# Altium footprint library 中频收发.PcbLib: 31 footprints (part 1 of 2)
Each footprint in its own frame and in the unit in brackets; x right, y up, seen from the top. Pads: shape width x height; smd on the part's side, far side on the other; paste and mask are expansions set on the pad; w line width, h text height; cw(c..) or ccw(c..) is an arc to the next point about the centre after c.
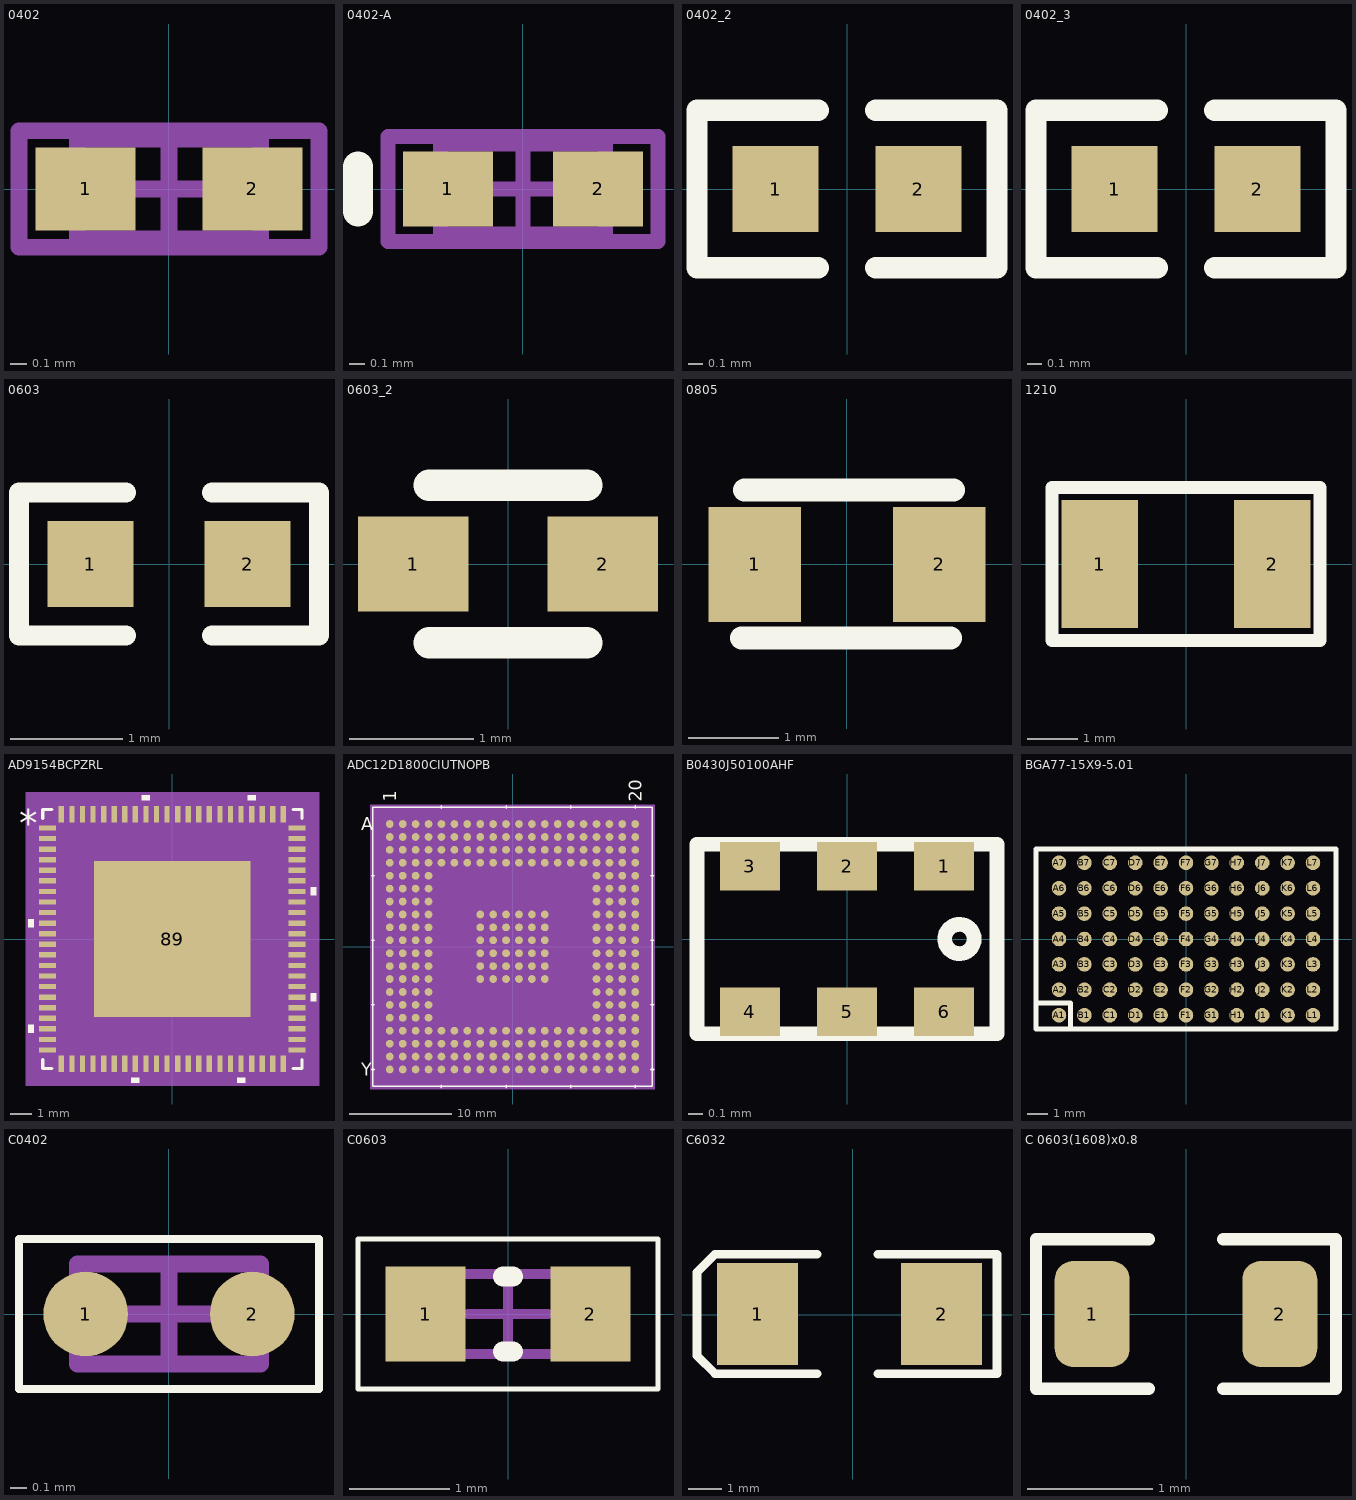
[diagram p0: the footprints below, top view; thin cyan lines are the x and y axes]

## 0402 [mm] "Chip Capacitor, Body 1.0x0.5mm, IPC High Density"
height 1.3
pads (2):
  rect 0.6x0.5 smd mask+0.02: 1(-0.5,0) 2(0.5,0)
Mechanical 13:
  lines w0.1: -0.55,-0.3 0.55,-0.3 0.55,0.3 -0.55,0.3 -0.55,-0.3
Mechanical 15:
  lines w0.1: -0.3,0 0.3,0 ; 0,-0.3 0,0.3 ; -0.9,-0.35 0.9,-0.35 0.9,0.35 -0.9,0.35 -0.9,-0.35
3D body: height 1.3, standoff 0, extent -0.55,-0.3 0.55,0.3

## 0402-A [mm] "Chip Inductor, Body 1.0x0.5mm, IPC High Density"
height 0.55
pads (2):
  rect 0.6x0.5 smd mask+0.02: 1(-0.5,0) 2(0.5,0)
Top Overlay:
  lines w0.2: -1.1,-0.15 -1.1,0.15
Mechanical 13:
  lines w0.1: -0.55,-0.3 0.55,-0.3 0.55,0.3 -0.55,0.3 -0.55,-0.3
Mechanical 15:
  lines w0.1: -0.3,0 0.3,0 ; 0,-0.3 0,0.3 ; -0.9,-0.35 0.9,-0.35 0.9,0.35 -0.9,0.35 -0.9,-0.35
3D body: height 0.55, standoff 0, extent -0.55,-0.3 0.55,0.3

## 0402_2 [mm]
pads (2):
  rect 0.6x0.6 smd: 1(-0.5,0) 2(0.5,0)
Top Overlay:
  lines w0.15: -0.2,-0.55 -1.05,-0.55 -1.05,0.55 -0.2,0.55 ; 0.2,-0.55 1.05,-0.55 1.05,0.55 0.2,0.55

## 0402_3 [mm]
pads (2):
  rect 0.6x0.6 smd: 1(-0.5,0) 2(0.5,0)
Top Overlay:
  lines w0.15: -0.2,-0.55 -1.05,-0.55 -1.05,0.55 -0.2,0.55 ; 0.2,-0.55 1.05,-0.55 1.05,0.55 0.2,0.55

## 0603 [mil]
pads (2):
  rect 30x30 smd: 1(-27.5,0) 2(27.5,0)
Top Overlay:
  lines w7: -15,-25 -52.5,-25 -52.5,25 -15,25 ; 15,-25 52.5,-25 52.5,25 15,25

## 0603_2 [mil]
pads (2):
  rect 35x30 smd: 1(-30,0) 2(30,0)
Top Overlay:
  lines w10: -25,-25 25,-25 ; -25,25 25,25

## 0805 [mil]
pads (2):
  rect 40x50 smd: 1(-40,0) 2(40,0)
Top Overlay:
  lines w10: -45.67,-31.89 44.88,-31.89 ; -44.49,32.28 46.06,32.28

## 1210 [mil]
pads (2):
  rect 60x100 smd: 1(-67.5,0) 2(67.5,0)
Top Overlay:
  lines w10: -105,-60 -105,60 105,60 105,-60 -105,-60

## AD9154BCPZRL [mm]
pads (89):
  rect 0.8x0.25 smd paste+0 mask+0: 1(-5.9,5.25) 2(-5.9,4.75) 3(-5.9,4.25) 4(-5.9,3.75) 5(-5.9,3.25) 6(-5.9,2.75) 7(-5.9,2.25) 8(-5.9,1.75) 9(-5.9,1.25) 10(-5.9,0.75) 11(-5.9,0.25) 12(-5.9,-0.25) 13(-5.9,-0.75) 14(-5.9,-1.25) 15(-5.9,-1.75) 16(-5.9,-2.25) 17(-5.9,-2.75) 18(-5.9,-3.25) 19(-5.9,-3.75) 20(-5.9,-4.25) 21(-5.9,-4.75) 22(-5.9,-5.25) 45(5.9,-5.25) 46(5.9,-4.75) 47(5.9,-4.25) 48(5.9,-3.75) 49(5.9,-3.25) 50(5.9,-2.75) 51(5.9,-2.25) 52(5.9,-1.75) 53(5.9,-1.25) 54(5.9,-0.75) 55(5.9,-0.25) 56(5.9,0.25) 57(5.9,0.75) 58(5.9,1.25) 59(5.9,1.75) 60(5.9,2.25) 61(5.9,2.75) 62(5.9,3.25) 63(5.9,3.75) 64(5.9,4.25) 65(5.9,4.75) 66(5.9,5.25)
  rect 0.25x0.8 smd paste+0 mask+0: 23(-5.25,-5.9) 24(-4.75,-5.9) 25(-4.25,-5.9) 26(-3.75,-5.9) 27(-3.25,-5.9) 28(-2.75,-5.9) 29(-2.25,-5.9) 30(-1.75,-5.9) 31(-1.25,-5.9) 32(-0.75,-5.9) 33(-0.25,-5.9) 34(0.25,-5.9) 35(0.75,-5.9) 36(1.25,-5.9) 37(1.75,-5.9) 38(2.25,-5.9) 39(2.75,-5.9) 40(3.25,-5.9) 41(3.75,-5.9) 42(4.25,-5.9) 43(4.75,-5.9) 44(5.25,-5.9) 67(5.25,5.9) 68(4.75,5.9) 69(4.25,5.9) 70(3.75,5.9) 71(3.25,5.9) 72(2.75,5.9) 73(2.25,5.9) 74(1.75,5.9) 75(1.25,5.9) 76(0.75,5.9) 77(0.25,5.9) 78(-0.25,5.9) 79(-0.75,5.9) 80(-1.25,5.9) 81(-1.75,5.9) 82(-2.25,5.9) 83(-2.75,5.9) 84(-3.25,5.9) 85(-3.75,5.9) 86(-4.25,5.9) 87(-4.75,5.9) 88(-5.25,5.9)
  rect 7.4x7.4 smd paste-3.687 mask+0: 89(0,0)
Top Overlay:
  region: -6.554,0.941 -6.808,0.941 -6.808,0.56 -6.554,0.56
  region: -6.554,-4.059 -6.808,-4.059 -6.808,-4.44 -6.554,-4.44
  region: -1.559,-6.554 -1.94,-6.554 -1.94,-6.808 -1.559,-6.808
  region: 3.441,-6.554 3.06,-6.554 3.06,-6.808 3.441,-6.808
  region: 6.554,-2.559 6.808,-2.559 6.808,-2.94 6.554,-2.94
  region: 6.554,2.441 6.808,2.441 6.808,2.06 6.554,2.06
  region: 3.941,6.554 3.56,6.554 3.56,6.808 3.941,6.808
  region: -1.06,6.554 -1.441,6.554 -1.441,6.808 -1.06,6.808
  lines w0.152: -6.127,-5.708 -6.127,-6.127 -5.708,-6.127 ; -6.127,5.708 -6.127,6.127 -5.708,6.127 ; 5.708,-6.127 6.127,-6.127 6.127,-5.708 ; 5.708,6.127 6.127,6.127 6.127,5.708
  text "*" at -7.253,4.865 h1.27
Top Paste:
  region: -2.32,3.6 -3.6,3.6 -3.6,2.32 -2.32,2.32
  region: -2.32,2.12 -3.6,2.12 -3.6,0.84 -2.32,0.84
  region: -2.32,0.64 -3.6,0.64 -3.6,-0.64 -2.32,-0.64
  region: -2.32,-0.84 -3.6,-0.84 -3.6,-2.12 -2.32,-2.12
  region: -2.32,-2.32 -3.6,-2.32 -3.6,-3.6 -2.32,-3.6
  region: -0.84,3.6 -2.12,3.6 -2.12,2.32 -0.84,2.32
  region: -0.84,2.12 -2.12,2.12 -2.12,0.84 -0.84,0.84
  region: -0.84,0.64 -2.12,0.64 -2.12,-0.64 -0.84,-0.64
  region: -0.84,-0.84 -2.12,-0.84 -2.12,-2.12 -0.84,-2.12
  region: -0.84,-2.32 -2.12,-2.32 -2.12,-3.6 -0.84,-3.6
  region: 0.64,3.6 -0.64,3.6 -0.64,2.32 0.64,2.32
  region: 0.64,2.12 -0.64,2.12 -0.64,0.84 0.64,0.84
  region: 0.64,0.64 -0.64,0.64 -0.64,-0.64 0.64,-0.64
  region: 0.64,-0.84 -0.64,-0.84 -0.64,-2.12 0.64,-2.12
  region: 0.64,-2.32 -0.64,-2.32 -0.64,-3.6 0.64,-3.6
  region: 2.12,3.6 0.84,3.6 0.84,2.32 2.12,2.32
  region: 2.12,2.12 0.84,2.12 0.84,0.84 2.12,0.84
  region: 2.12,0.64 0.84,0.64 0.84,-0.64 2.12,-0.64
  region: 2.12,-0.84 0.84,-0.84 0.84,-2.12 2.12,-2.12
  region: 2.12,-2.32 0.84,-2.32 0.84,-3.6 2.12,-3.6
  region: 3.6,3.6 2.32,3.6 2.32,2.32 3.6,2.32
  region: 3.6,2.12 2.32,2.12 2.32,0.84 3.6,0.84
  region: 3.6,0.64 2.32,0.64 2.32,-0.64 3.6,-0.64
  region: 3.6,-0.84 2.32,-0.84 2.32,-2.12 3.6,-2.12
  region: 3.6,-2.32 2.32,-2.32 2.32,-3.6 3.6,-3.6
Mechanical 5:
  region: 6.935,-6.935 -6.935,-6.935 -6.935,6.935 6.935,6.935
Mechanical 13:
  drawing of 181 lines, arcs and shapes, not listed
  text "*" at -5.817,4.865 h1.27
Mechanical 15:
  region: -5.629,-6.254 -6.254,-6.254 -6.254,-5.629 -6.554,-5.629 -6.554,5.629 -6.254,5.629 -6.254,6.254 -5.629,6.254 -5.629,6.554 5.629,6.554 5.629,6.254 6.254,6.254 6.254,5.629 6.554,5.629 6.554,-5.629 6.254,-5.629 6.254,-6.254 5.629,-6.254 5.629,-6.554 -5.629,-6.554
  lines w0.152: -6.554,-5.629 -6.254,-5.629 -6.254,-6.254 -5.629,-6.254 -5.629,-6.554 5.629,-6.554 5.629,-6.254 6.254,-6.254 6.254,-5.629 6.554,-5.629 6.554,5.629 6.254,5.629 6.254,6.254 5.629,6.254 5.629,6.554 -5.629,6.554 -5.629,6.254 -6.254,6.254 -6.254,5.629 -6.554,5.629 -6.554,-5.629
3D body "CP_88_6_ADI.step": height 0.89, standoff 0, extent -6,-6 6,6

## ADC12D1800CIUTNOPB [mil]
pads (292):
  round 30 smd paste+0 mask+0: A1(-475,475) A2(-425,475) A3(-375,475) A4(-325,475) A5(-275,475) A6(-225,475) A7(-175,475) A8(-125,475) A9(-75,475) A10(-25,475) A11(25,475) A12(75,475) A13(125,475) A14(175,475) A15(225,475) A16(275,475) A17(325,475) A18(375,475) A19(425,475) A20(475,475) B1(-475,425) B2(-425,425) B3(-375,425) B4(-325,425) B5(-275,425) B6(-225,425) B7(-175,425) B8(-125,425) B9(-75,425) B10(-25,425) B11(25,425) B12(75,425) B13(125,425) B14(175,425) B15(225,425) B16(275,425) B17(325,425) B18(375,425) B19(425,425) B20(475,425) C1(-475,375) C2(-425,375) C3(-375,375) C4(-325,375) C5(-275,375) C6(-225,375) C7(-175,375) C8(-125,375) C9(-75,375) C10(-25,375) C11(25,375) C12(75,375) C13(125,375) C14(175,375) C15(225,375) C16(275,375) C17(325,375) C18(375,375) C19(425,375) C20(475,375) D1(-475,325) D2(-425,325) D3(-375,325) D4(-325,325) D5(-275,325) D6(-225,325) D7(-175,325) D8(-125,325) D9(-75,325) D10(-25,325) D11(25,325) D12(75,325) D13(125,325) D14(175,325) D15(225,325) D16(275,325) D17(325,325) D18(375,325) D19(425,325) D20(475,325) E1(-475,275) E2(-425,275) E3(-375,275) E4(-325,275) E17(325,275) E18(375,275) E19(425,275) E20(475,275) F1(-475,225) F2(-425,225) F3(-375,225) F4(-325,225) F17(325,225) F18(375,225) F19(425,225) F20(475,225) G1(-475,175) G2(-425,175) G3(-375,175) G4(-325,175) G17(325,175) G18(375,175) G19(425,175) G20(475,175) H1(-475,125) H2(-425,125) H3(-375,125) H4(-325,125) H8(-125,125) H9(-75,125) H10(-25,125) H11(25,125) H12(75,125) H13(125,125) H17(325,125) H18(375,125) H19(425,125) H20(475,125) J1(-475,75) J2(-425,75) J3(-375,75) J4(-325,75) J8(-125,75) J9(-75,75) J10(-25,75) J11(25,75) J12(75,75) J13(125,75) J17(325,75) J18(375,75) J19(425,75) J20(475,75) K1(-475,25) K2(-425,25) K3(-375,25) K4(-325,25) K8(-125,25) K9(-75,25) K10(-25,25) K11(25,25) K12(75,25) K13(125,25) K17(325,25) K18(375,25) K19(425,25) K20(475,25) L1(-475,-25) L2(-425,-25) L3(-375,-25) L4(-325,-25) L8(-125,-25) L9(-75,-25) L10(-25,-25) L11(25,-25) L12(75,-25) L13(125,-25) L17(325,-25) L18(375,-25) L19(425,-25) L20(475,-25) M1(-475,-75) M2(-425,-75) M3(-375,-75) M4(-325,-75) M8(-125,-75) M9(-75,-75) M10(-25,-75) M11(25,-75) M12(75,-75) M13(125,-75) M17(325,-75) M18(375,-75) M19(425,-75) M20(475,-75) N1(-475,-125) N2(-425,-125) N3(-375,-125) N4(-325,-125) N8(-125,-125) N9(-75,-125) N10(-25,-125) N11(25,-125) N12(75,-125) N13(125,-125) N17(325,-125) N18(375,-125) N19(425,-125) N20(475,-125) P1(-475,-175) P2(-425,-175) P3(-375,-175) P4(-325,-175) P17(325,-175) P18(375,-175) P19(425,-175) P20(475,-175) R1(-475,-225) R2(-425,-225) R3(-375,-225) R4(-325,-225) R17(325,-225) R18(375,-225) R19(425,-225) R20(475,-225) T1(-475,-275) T2(-425,-275) T3(-375,-275) T4(-325,-275) T17(325,-275) T18(375,-275) T19(425,-275) T20(475,-275) U1(-475,-325) U2(-425,-325) U3(-375,-325) U4(-325,-325) U5(-275,-325) U6(-225,-325) U7(-175,-325) U8(-125,-325) U9(-75,-325) U10(-25,-325) U11(25,-325) U12(75,-325) U13(125,-325) U14(175,-325) U15(225,-325) U16(275,-325) U17(325,-325) U18(375,-325) U19(425,-325) U20(475,-325) V1(-475,-375) V2(-425,-375) V3(-375,-375) V4(-325,-375) V5(-275,-375) V6(-225,-375) V7(-175,-375) V8(-125,-375) V9(-75,-375) V10(-25,-375) V11(25,-375) V12(75,-375) V13(125,-375) V14(175,-375) V15(225,-375) V16(275,-375) V17(325,-375) V18(375,-375) V19(425,-375) V20(475,-375) W1(-475,-425) W2(-425,-425) W3(-375,-425) W4(-325,-425) W5(-275,-425) W6(-225,-425) W7(-175,-425) W8(-125,-425) W9(-75,-425) W10(-25,-425) W11(25,-425) W12(75,-425) W13(125,-425) W14(175,-425) W15(225,-425) W16(275,-425) W17(325,-425) W18(375,-425) W19(425,-425) W20(475,-425) Y1(-475,-475) Y2(-425,-475) Y3(-375,-475) Y4(-325,-475) Y5(-275,-475) Y6(-225,-475) Y7(-175,-475) Y8(-125,-475) Y9(-75,-475) Y10(-25,-475) Y11(25,-475) Y12(75,-475) Y13(125,-475) Y14(175,-475) Y15(225,-475) Y16(275,-475) Y17(325,-475) Y18(375,-475) Y19(425,-475) Y20(475,-475)
Top Overlay:
  lines w6: -545.5,-475 -535.5,-475 ; -545.5,-225 -535.5,-225 ; -545.5,25 -535.5,25 ; -545.5,275 -535.5,275 ; -275,-545.5 -275,-535.5 ; -275,535.5 -275,545.5 ; -25,-545.5 -25,-535.5 ; -25,535.5 -25,545.5 ; 225,-545.5 225,-535.5 ; 225,535.5 225,545.5 ; 475,-545.5 475,-535.5 ; 475,535.5 475,545.5 ; 535.5,-475 545.5,-475 ; 535.5,-225 545.5,-225 ; 535.5,25 545.5,25 ; 535.5,275 545.5,275 ; -540.5,-540.5 -540.5,540.5 540.5,540.5 540.5,-540.5 -540.5,-540.5
  text "20" at 500,560.5 h50
  text "1" at -450,560.5 h50
  text "Y" at -585.5,-500 h50
  text "A" at -585.5,450 h50
Bottom Overlay:
  text "20" at 450,560.5 h50
  text "1" at -500,560.5 h50
  text "Y" at -560.5,-500 h50
  text "A" at -560.5,450 h50
Mechanical 5:
  region: 550.5,-550.5 -550.5,-550.5 -550.5,550.5 550.5,550.5
Mechanical 13:
  lines w1: -535.5,510.5 -510.5,535.5 ; -535.5,-535.5 -535.5,535.5 535.5,535.5 535.5,-535.5 -535.5,-535.5
  text "20" at 500,560.5 h50
  text "1" at -450,560.5 h50
  text "Y" at -585.5,-500 h50
  text "A" at -585.5,450 h50
Mechanical 15:
  region: 545.5,-545.5 -545.5,-545.5 -545.5,545.5 545.5,545.5
  lines w6: -545.5,-545.5 545.5,-545.5 545.5,545.5 -545.5,545.5 -545.5,-545.5
3D body "UFH292A.step": height 95.12, standoff 0, extent -535.51,-535.51 535.51,535.51

## B0430J50100AHF [mm]
pads (6):
  rect 0.41x0.33 smd: 1(0.66,0.495) 2(0,0.495) 3(-0.66,0.495) 4(-0.66,-0.495) 5(0,-0.495) 6(0.66,-0.495)
Top Overlay:
  circle w0.1: c0.765,0 r0.1
  lines w0.1: -1.02,-0.645 1.02,-0.645 1.02,0.645 -1.02,0.645 -1.02,-0.645

## BGA77-15X9-5.01 [mm]
pads (77):
  round 0.73 smd: A1(-6.35,-3.81) A2(-6.35,-2.54) A3(-6.35,-1.27) A4(-6.35,0) A5(-6.35,1.27) A6(-6.35,2.54) A7(-6.35,3.81) B1(-5.08,-3.81) B2(-5.08,-2.54) B3(-5.08,-1.27) B4(-5.08,0) B5(-5.08,1.27) B6(-5.08,2.54) B7(-5.08,3.81) C1(-3.81,-3.81) C2(-3.81,-2.54) C3(-3.81,-1.27) C4(-3.81,0) C5(-3.81,1.27) C6(-3.81,2.54) C7(-3.81,3.81) D1(-2.54,-3.81) D2(-2.54,-2.54) D3(-2.54,-1.27) D4(-2.54,0) D5(-2.54,1.27) D6(-2.54,2.54) D7(-2.54,3.81) E1(-1.27,-3.81) E2(-1.27,-2.54) E3(-1.27,-1.27) E4(-1.27,0) E5(-1.27,1.27) E6(-1.27,2.54) E7(-1.27,3.81) F1(0,-3.81) F2(0,-2.54) F3(0,-1.27) F4(0,0) F5(0,1.27) F6(0,2.54) F7(0,3.81) G1(1.27,-3.81) G2(1.27,-2.54) G3(1.27,-1.27) G4(1.27,0) G5(1.27,1.27) G6(1.27,2.54) G7(1.27,3.81) H1(2.54,-3.81) H2(2.54,-2.54) H3(2.54,-1.27) H4(2.54,0) H5(2.54,1.27) H6(2.54,2.54) H7(2.54,3.81) J1(3.81,-3.81) J2(3.81,-2.54) J3(3.81,-1.27) J4(3.81,0) J5(3.81,1.27) J6(3.81,2.54) J7(3.81,3.81) K1(5.08,-3.81) K2(5.08,-2.54) K3(5.08,-1.27) K4(5.08,0) K5(5.08,1.27) K6(5.08,2.54) K7(5.08,3.81) L1(6.35,-3.81) L2(6.35,-2.54) L3(6.35,-1.27) L4(6.35,0) L5(6.35,1.27) L6(6.35,2.54) L7(6.35,3.81)
Top Overlay:
  lines w0.254: -7.493,-3.2 -5.765,-3.2 -5.765,-4.4 ; -7.5,-4.5 7.5,-4.5 7.5,4.5 -7.5,4.5 -7.5,-4.5

## C0402 [mil]
height 11.81
pads (2):
  round 20 smd: 1(-19.68,0) 2(19.68,0)
Top Overlay:
  lines w1.97: -35.43,-17.72 -35.43,17.72 35.43,17.72 35.43,-17.72 -35.43,-17.72
Mechanical 13:
  lines w3.94: -21.65,-11.81 21.65,-11.81 21.65,11.81 -21.65,11.81 -21.65,-11.81
Mechanical 15:
  lines w1.97: -35.43,-17.72 -35.43,17.72 35.43,17.72 35.43,-17.72 -35.43,-17.72
  lines w3.94: -9.84,0 9.84,0 ; 0,-9.84 0,9.84
3D body "C 0402.STEP": height 20.68, standoff 0.21, extent -19.68,-10.23 19.69,10.24

## C0603 [mm]
height 1.2
pads (2):
  rect 0.8x0.95 smd: 1(-0.825,0) 2(0.825,0)
Top Overlay:
  lines w0.05: -1.5,-0.75 -1.5,0.75 1.5,0.75 1.5,-0.75 -1.5,-0.75
  lines w0.2: -0.05,-0.375 0.05,-0.375 ; -0.05,0.375 0.05,0.375
Mechanical 13:
  lines w0.1: -0.8,-0.4 -0.8,0.4 0.8,0.4 0.8,-0.4 -0.8,-0.4
Mechanical 15:
  lines w0.1: -0.4,0 0.4,0 ; 0,-0.4 0,0.4
3D body "C 0603.STEP": height 0.81, standoff -0.01, extent -0.8,-0.41 0.8,0.41

## C6032 [mil]
height 98.43
pads (2):
  rect 95x120 smd: 1(-112,1) 2(104,1)
Top Overlay:
  lines w10: -42,-69 -156,-69 -162,-69 -183,-48 -183,50 -163,70 -162,71 -42,71 ; 29,-69 169,-69 169,71 29,71
3D body "TAJ-C.STEP": height 102.36, standoff 0, extent -121.11,-61.99 115.11,63.99

## C 0603(1608)x0.8 [mm]
height 0.8
pads (2):
  rrect50% 0.6x0.85 smd: 1(-0.75,0) 2(0.75,0)
Top Overlay:
  lines w0.1: -0.3,-0.6 -1.2,-0.6 -1.2,0.6 -0.3,0.6 ; 0.3,-0.6 1.2,-0.6 1.2,0.6 0.3,0.6
3D body "Cap 0603(1608)x80N.STEP": height 0.81, standoff 0, extent -0.8,-0.4 0.8,0.4